# Altium footprint library EasyARM-i.MX283-EV V1.01.PcbLib: 48 footprints (part 3 of 3)
Each footprint in its own frame and in the unit in brackets; x right, y up, seen from the top. Pads: shape width x height; smd on the part's side, far side on the other; paste and mask are expansions set on the pad; w line width, h text height; cw(c..) or ccw(c..) is an arc to the next point about the centre after c.
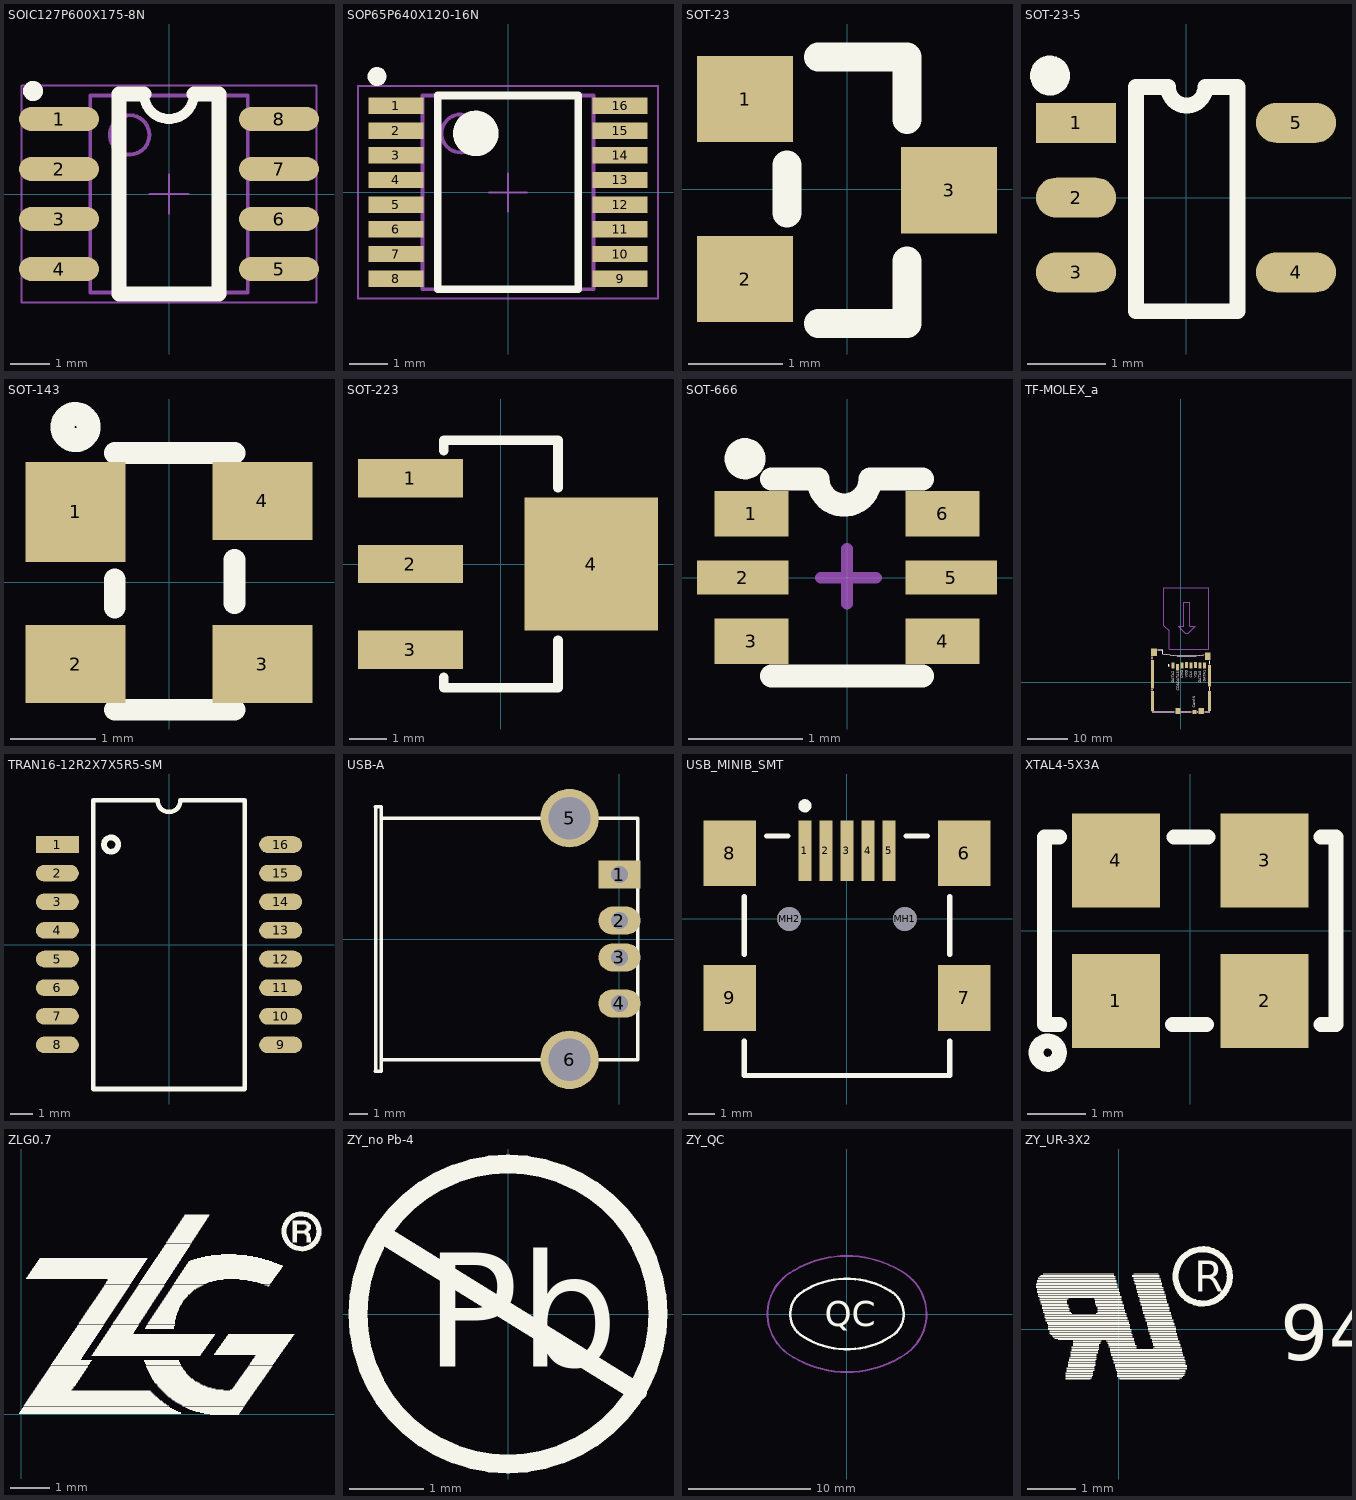
[diagram p2: the footprints below, top view; thin cyan lines are the x and y axes]

## SOIC127P600X175-8N [mil]
pads (8):
  oval 80x24 smd: 1(-110,75) 2(-110,25) 3(-110,-25) 4(-110,-75) 5(110,-75) 6(110,-25) 7(110,25) 8(110,75)
Top Overlay:
  circle w10: c-136,103 r5
  lines w10: -25,100 ccw(c0,100) 25,100
  lines w15: -25,100 -50,100 -50,-100 50,-100 50,100 25,100
Mechanical 15:
  circle w3.94: c-39.37,59.06 r19.68
  lines w3.94: -78.74,-98.43 78.74,-98.43 78.74,98.43 -78.74,98.43 -78.74,-98.43
  text "1" at 17.71,-6.47 h29.53
Mechanical 16:
  lines w0.04: -78.74,-98.43 78.74,-98.43 78.74,98.43 -78.74,98.43 -78.74,-98.43
  lines w1.97: -19.68,0 19.68,0 ; 0,-19.68 0,19.68 ; -147.64,-108.27 147.64,-108.27 147.64,108.27 -147.64,108.27 -147.64,-108.27
3D body: height 61.02, standoff -1.97, extent -117.91,-96 117.91,96.91

## SOP65P640X120-16N [mm]
pads (16):
  rect 1.45x0.432 smd: 1(-2.95,2.275) 2(-2.95,1.625) 3(-2.95,0.975) 4(-2.95,0.325) 5(-2.95,-0.325) 6(-2.95,-0.975) 7(-2.95,-1.625) 8(-2.95,-2.275) 9(2.95,-2.275) 10(2.95,-1.625) 11(2.95,-0.975) 12(2.95,-0.325) 13(2.95,0.325) 14(2.95,0.975) 15(2.95,1.625) 16(2.95,2.275)
Top Overlay:
  circle w0.6: c-0.85,1.55 r0.3
  circle w0.25: c-3.45,3.05 r0.125
  lines w0.2: -1.85,-2.55 -1.85,2.55 1.85,2.55 1.85,-2.55 -1.85,-2.55
Mechanical 15:
  circle w0.1: c-1.25,1.55 r0.5
  lines w0.1: -2.25,-2.55 -2.25,2.55 2.25,2.55 2.25,-2.55 -2.25,-2.55
  text "1" at 0.45,-0.164 h0.75
Mechanical 16:
  lines w0.001: -2.25,-2.55 -2.25,2.55 2.25,2.55 2.25,-2.55 -2.25,-2.55
  lines w0.05: -0.5,0 0.5,0 ; 0,-0.5 0,0.5 ; -3.95,-2.8 -3.95,2.8 3.95,2.8 3.95,-2.8 -3.95,-2.8
3D body: height 1.2, standoff 0, extent -2.25,-2.55 2.25,2.55

## SOT-23 [mil]
pads (3):
  rect 40x36 smd: 1(-42.5,37.5) 2(-42.5,-37.5) 3(42.5,-0.5)
Top Overlay:
  lines w12: -25,-10 -25,10 ; -12,-56 25,-56 25,-30 ; -12,55 25,55 25,29
3D body: height 39.37, standoff -0.79, extent -47,-57.48 50.48,57.48

## SOT-23-5 [mil]
pads (5):
  rect 40x20 smd: 1(-55,37.4)
  oval 40x20 smd: 2(-55,0) 3(-55,-37.4) 4(55,-37.4) 5(55,37.4)
Top Overlay:
  circle w10: c-68,61 r5
  lines w7.87: -25,55.4 -25,-56.8 25.7,-56.8 25.7,55.4 ; -9,55.4 ccw(c0.35,55.4) 9.7,55.4
  lines w8: -25,55.4 -9,55.4 ; 9.7,55.4 25.7,55.4
3D body: height 42.79, standoff -0.51, extent -55.16,-57.06 55.09,57.09

## SOT-143 [mil]
pads (4):
  rect 46x46 smd: 1(-43,32.5)
  rect 46x36 smd: 2(-43,-37.5) 3(43,-37.5) 4(43,37.5)
Top Overlay:
  circle w11: c-43,71.5 r6
  lines w10: -25,-58.5 30.12,-58.5 ; -25,-11.5 -25,1.5 ; -25,59.61 30.12,59.61 ; 30.12,-9.5 30.12,10.5

## SOT-223 [mil]
pads (4):
  rect 110x40 smd: 1(-95,90) 2(-95,0) 3(-95,-90)
  rect 140x140 smd: 4(95,0)
Top Overlay:
  lines w10: -60,-119 -60,-130 60,-130 60,-80 ; -60,119 -60,130 60,130 60,80
3D body: height 64.96, standoff -1.18, extent -135.94,-127.92 138.07,127.98

## SOT-666 [mm]
pads (6):
  rect 0.65x0.4 smd mask+0.076: 1(-0.838,0.559) 3(-0.838,-0.559) 4(0.838,-0.559) 6(0.838,0.559)
  rect 0.8x0.3 smd mask+0.076: 2(-0.914,0) 5(0.914,0)
Top Overlay:
  circle w0.2: c-0.893,1.041 r0.08
  lines w0.203: -0.66,-0.864 0.66,-0.864 ; -0.66,0.864 -0.254,0.864 ccw(c-0.025,0.864) 0.203,0.864 0.66,0.864
Mechanical 15:
  lines w0.102: -0.229,0 0.254,0 ; 0,-0.229 0,0.254

## TF-MOLEX_a [mm]
pads (17):
  rect 0.7x1.5 smd: 1(-1.94,4.024) 2(-0.84,3.624) 3(0.26,4.024) 4(1.36,4.224) 5(2.46,4.024) 6(3.56,4.224) 7(4.66,4.024) 8(5.76,4.024)
  rect 0.95x1 smd: 9(3.312,-7.314)
  rect 1.3x1.4 smd: 10(4.95,-7.09) 17(-0.75,-7.09)
  rect 0.711x4.877 smd: 11(7,-4.623)
  rect 0.711x5.3 smd: 12(7,1.575)
  rect 1.4x1.9 smd: 13(6.55,6.314) 14(-6.6,7.314)
  rect 0.711x7 smd: 15(-7,1.956)
  rect 0.711x4.9 smd: 16(-7,-4.623)
Top Overlay:
  circle w0.254: c-3.023,4.064 r0.127
  lines w0.203: -7,-7.236 -1.625,-7.236 ; -7,-1.956 -7,-1.753 ; -7,5.664 -7,6.147 ; -5.638,7.964 -4.5,7.964 -4.5,6.964 ccw(c1.25,36.022) 5.565,6.717 ; 0.127,-7.236 2.575,-7.236 ; 3.998,-7.236 4.074,-7.236 ; 5.817,-7.236 7,-7.236 ; 7,-1.981 7,-1.295 ; 7,4.445 7,5.156
  text "DATA1" at 6.071,0.12 h0.64
  text "DATA0" at 4.979,-0.152 h0.64
  text "VSS" at 3.836,1.045 h0.64
  text "CLK" at 2.769,1.111 h0.64
  text "CMD" at 0.585,0.878 h0.64
  text "CD&DATA3" at -0.482,-2.081 h0.64
  text "DATA2" at -1.651,-0.152 h0.64
  text "VDD" at 1.677,1.045 h0.64
  text "Card N" at 3.541,-6.248 h0.64
Mechanical 15:
  lines w0.203: -4.501,6.957 ccw(c1.212,36.022) 7,6.972 7,-7.236 -7,-7.236 -7,7.964 -4.5,7.964 -4.5,6.964 ; -4.21,13.805 -4.21,23.064 6.79,23.064 6.79,8.064 -2.91,8.064 -2.91,12.464 ; -4.21,13.809 -2.91,12.509 ; -0.675,13.652 1.002,11.976 1.764,11.976 3.465,13.678 2.17,13.678 2.17,19.57 0.621,19.57 0.621,13.652 -0.675,13.652

## TRAN16-12R2X7X5R5-SM [mil]
pads (16):
  rect 75x29 smd: 1(-195,175)
  oval 75x29 smd: 2(-195,125) 3(-195,75) 4(-195,25) 5(-195,-25) 6(-195,-75) 7(-195,-125) 8(-195,-175) 9(195,-175) 10(195,-125) 11(195,-75) 12(195,-25) 13(195,25) 14(195,75) 15(195,125) 16(195,175)
Top Overlay:
  circle w10: c-101.14,175 r12.49
  lines w7.87: -132.24,-251.97 -132.24,251.97 -20.04,251.97 ccw(c0,251.97) 20.04,251.97 132.24,251.97 132.24,-251.97 -132.24,-251.97

## USB-A [mil]
pads (6):
  rect 90x60 hole 36: 1(0,137.8)
  oval 90x60 hole 36: 2(0,39.37) 3(0,-39.37) 4(0,-137.8)
  round 125 hole 90.55: 5(-106.69,258.66) 6(-106.69,-258.66)
Top Overlay:
  lines w7.87: -522,-283 -522,283
  lines w8: -522,-283 -510,-283 -510,283 -522,283 ; -510,-258.66 39.37,-258.66 39.37,258.66 -510,258.66
3D body: height 297.24, standoff -129.92, extent -514.17,-310.83 43.31,311.21

## USB_MINIB_SMT [mm]
pads (11):
  rect 0.5x2.3 smd: 1(-1.6,2.6) 2(-0.8,2.6) 3(0,2.6) 4(0.8,2.6) 5(1.6,2.6)
  rect 2x2.5 smd: 6(4.45,2.5) 7(4.45,-3) 8(-4.45,2.5) 9(-4.45,-3)
  round 0.9 hole 0.9 unplated: MH1(2.2,0) MH2(-2.2,0)
Top Overlay:
  circle w0.25: c-1.6,4.3 r0.125
  lines w0.2: -3.9,-4.65 -3.9,-5.95 3.9,-5.95 3.9,-4.65 ; -3.9,-1.35 -3.9,0.85 ; -3.05,3.15 -2.25,3.15 ; 2.25,3.15 3.05,3.15 ; 3.9,-1.35 3.9,0.85
3D body: height 3.95, standoff -1, extent -5.35,-5.9 5.35,3.3

## XTAL4-5X3A [mm]
pads (4):
  rect 1.5x1.6 smd: 1(-1.27,-1.2) 2(1.27,-1.2) 3(1.27,1.2) 4(-1.27,1.2)
Top Overlay:
  circle w0.254: c-2.435,-2.083 r0.2
  lines w0.254: -2.235,-1.6 -2.489,-1.6 -2.489,1.6 -2.235,1.6 ; -0.305,-1.6 0.279,-1.6 ; -0.279,1.6 0.305,1.6 ; 2.235,-1.6 2.489,-1.6 2.489,1.6 2.235,1.6
3D body: height 1, standoff 0, extent -2.489,-1.6 2.489,1.6

## ZLG0.7 [mil]
Top Overlay:
  drawing of 523 lines, arcs and shapes, not listed

## ZY_no Pb-4 [mil]
Top Overlay:
  circle w10: c0,0 r80
  lines w10: -65.5,41.5 69,-41.5
  text "Pb" at -44.5,-28 h61

## ZY_QC [mil]
Top Overlay:
  lines w8: -152.68,64.82 ccw(c-98,0) -152.2,-65.23 ; -152.7,64.84 cw(c0.01,-148) 138.91,74.09 ; -152.19,-65.21 ccw(c-0.01,148) 152.7,-64.84 ; 139.77,73.81 cw(c98,0) 152.68,-64.82
  text "QC" at -71,-40.1 h81
Mechanical 15:
  lines w6: -172.01,139.49 ccw(c-98,0) -171.72,-139.64 ; -171.67,-139.56 ccw(c0.19,148) 171.82,-139.71 ; -171.62,139.71 cw(c0.01,-148) 169.76,140.81 ; 169.74,140.77 cw(c98.2,0) 172.21,-139.49

## ZY_UR-3X2 [mil]
Top Overlay:
  drawing of 193 lines, arcs and shapes, not listed
  text "94V-0" at 131,-25 h45
  text "R" at 61,30.5 h25